# EAGLE library part 2X18_FANCY_CHIP (library VGA-DIP)
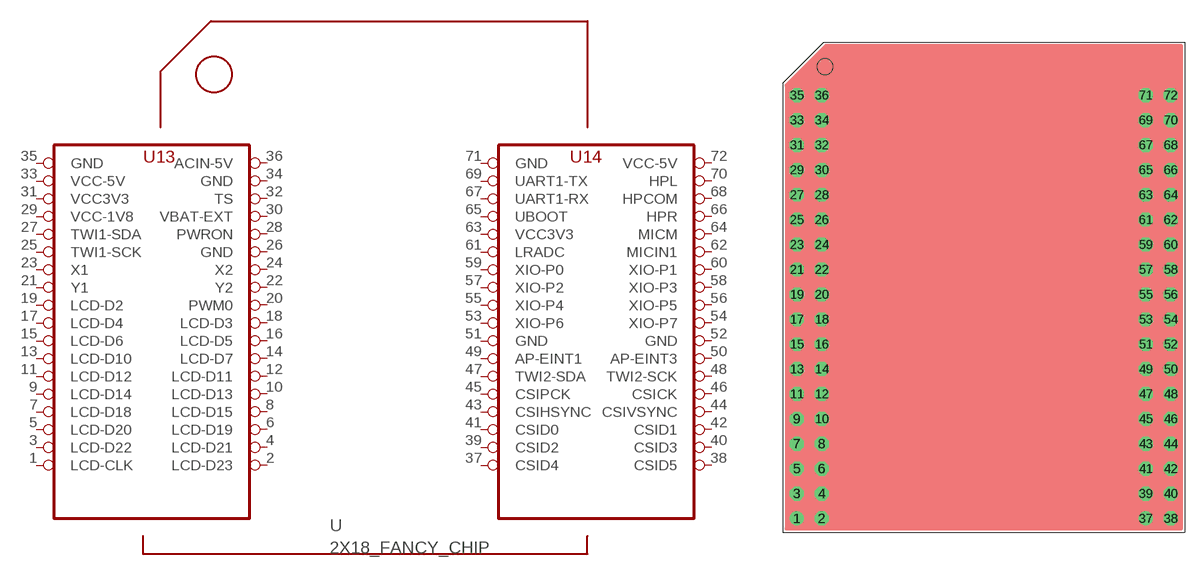
[diagram p3: symbol with the pads of 2X18_FANCY_EDGE_CHIP_TH; footprint 2X18_FANCY_EDGE_CHIP_TH]

Designator prefix -

## 2X18_FANCY_CHIP  [2X18_FANCY_EDGE_CHIP_TH]
1  LCD-CLK  pas
2  LCD-D23  pas
3  LCD-D22  pas
4  LCD-D21  pas
5  LCD-D20  pas
6  LCD-D19  pas
7  LCD-D18  pas
8  LCD-D15  pas
9  LCD-D14  pas
10  LCD-D13  pas
11  LCD-D12  pas
12  LCD-D11  pas
13  LCD-D10  pas
14  LCD-D7  pas
15  LCD-D6  pas
16  LCD-D5  pas
17  LCD-D4  pas
18  LCD-D3  pas
19  LCD-D2  pas
20  PWM0  pas
21  Y1  pas
22  Y2  pas
23  X1  pas
24  X2  pas
25  TWI1-SCK  pas
26  GND  pwr
27  TWI1-SDA  pas
28  PWRON  pas
29  VCC-1V8  pwr
30  VBAT-EXT  pas
31  VCC3V3  pwr
32  TS  pas
33  VCC-5V  pwr
34  GND  pwr
35  GND  pwr
36  ACIN-5V  pas
37  CSID4  pas
38  CSID5  pas
39  CSID2  pas
40  CSID3  pas
41  CSID0  pas
42  CSID1  pas
43  CSIHSYNC  pas
44  CSIVSYNC  pas
45  CSIPCK  pas
46  CSICK  pas
47  TWI2-SDA  pas
48  TWI2-SCK  pas
49  AP-EINT1  pas
50  AP-EINT3  pas
51  GND  pwr
52  GND  pwr
53  XIO-P6  pas
54  XIO-P7  pas
55  XIO-P4  pas
56  XIO-P5  pas
57  XIO-P2  pas
58  XIO-P3  pas
59  XIO-P0  pas
60  XIO-P1  pas
61  LRADC  pas
62  MICIN1  pas
63  VCC3V3  pwr
64  MICM  pas
65  UBOOT  pas
66  HPR  pas
67  UART1-RX  pas
68  HPCOM  pas
69  UART1-TX  pas
70  HPL  pas
71  GND  pwr
72  VCC-5V  pwr

## Footprint 2X18_FANCY_EDGE_CHIP_TH (pad centres in mm)
drill 0.914: 1 1.45,1.41; 37 37.01,1.41
drill 0.914 octagon: 2 3.99,1.41; 3 1.45,3.95; 4 3.99,3.95; 5 1.45,6.49; 6 3.99,6.49; 7 1.45,9.03; 8 3.99,9.03; 9 1.45,11.57; 10 3.99,11.57; 11 1.45,14.11; 12 3.99,14.11; 13 1.45,16.65; 14 3.99,16.65; 15 1.45,19.19; 16 3.99,19.19; 17 1.45,21.73; 18 3.99,21.73; 19 1.45,24.27; 20 3.99,24.27; 21 1.45,26.81; 22 3.99,26.81; 23 1.45,29.35; 24 3.99,29.35; 25 1.45,31.89; 26 3.99,31.89; 27 1.45,34.43; 28 3.99,34.43; 29 1.45,36.97; 30 3.99,36.97; 31 1.45,39.51; 32 3.99,39.51; 33 1.45,42.05; 34 3.99,42.05; 35 1.45,44.59; 36 3.99,44.59; 38 39.55,1.41; 39 37.01,3.95; 40 39.55,3.95; 41 37.01,6.49; 42 39.55,6.49; 43 37.01,9.03; 44 39.55,9.03; 45 37.01,11.57; 46 39.55,11.57; 47 37.01,14.11; 48 39.55,14.11; 49 37.01,16.65; 50 39.55,16.65; 51 37.01,19.19; 52 39.55,19.19; 53 37.01,21.73; 54 39.55,21.73; 55 37.01,24.27; 56 39.55,24.27; 57 37.01,26.81; 58 39.55,26.81; 59 37.01,29.35; 60 39.55,29.35; 61 37.01,31.89; 62 39.55,31.89; 63 37.01,34.43; 64 39.55,34.43; 65 37.01,36.97; 66 39.55,36.97; 67 37.01,39.51; 68 39.55,39.51; 69 37.01,42.05; 70 39.55,42.05; 71 37.01,44.59; 72 39.55,44.59
hole 1.6 at 4.3,47.5